# EAGLE library part MOSFET-DUAL (library - Jins eagle lbr)
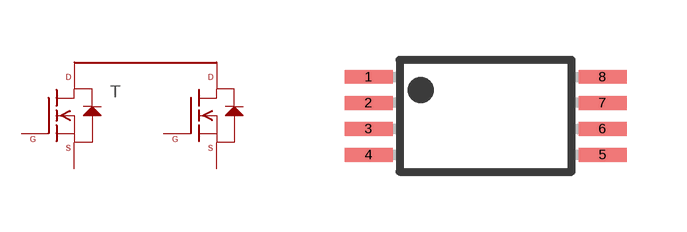
[diagram p19: symbol with the pads of TSSOP8; footprint TSSOP8]

Designator prefix T

## MOSFET-DUAL  [TSSOP8]
1  D1  pas
2  S  pas
3  S  pas
4  G  pas
5  G1  pas
6  S1  pas
7  S1  pas
8  D  pas

## Footprint TSSOP8 (pad centres in mm)
smd 1.2 x 0.35: 1 -2.925,0.975; 2 -2.925,0.325; 3 -2.925,-0.325; 4 -2.925,-0.975; 5 2.925,-0.975; 6 2.925,-0.325; 7 2.925,0.325; 8 2.925,0.975